# Altium integrated library Relay.IntLib: 28 symbols
Pins are listed as number, name and electrical type; pins without a type are passive.

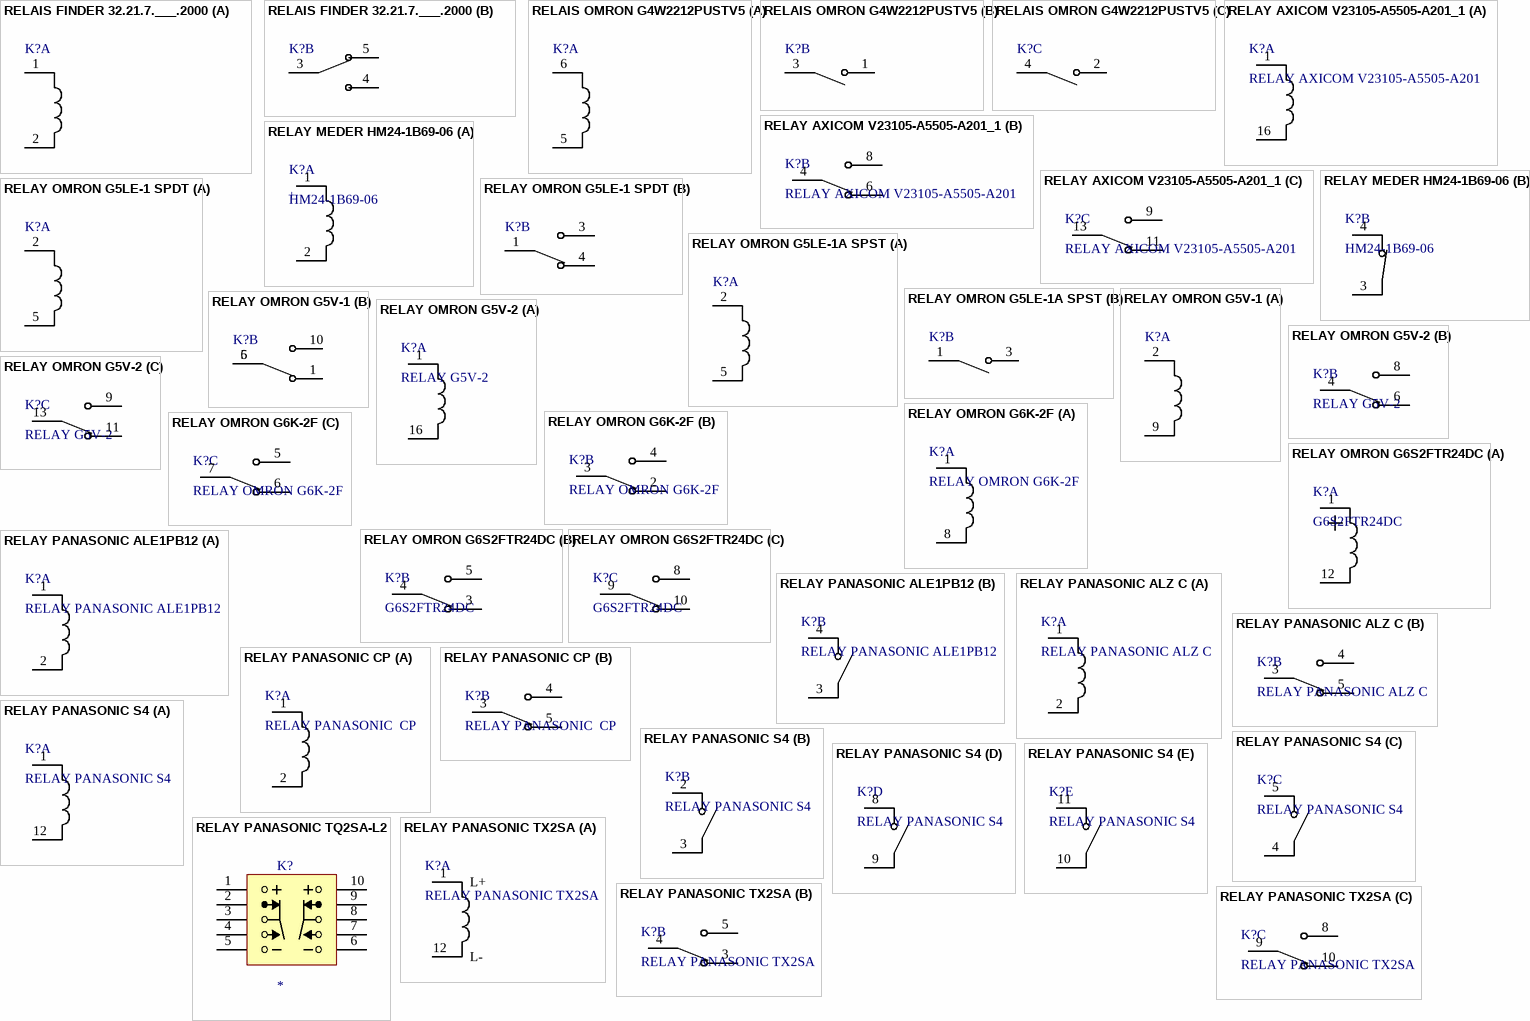
[diagram p0: symbols RELAIS FINDER 32.21.7.___.2000 to RELAY PANASONIC TX2SA]

## RELAIS FINDER 32.21.7.___.2000
designator K?, comment 32.21.7.___.2000  (value not drawn)
RELAIS FINDER 32.21.7.___.2000; Value: 32.21.7.___.2000
footprint RELAIS FINDER 32.21.7.___.2000
part A pins: 1 A1, 2 A2
part B pins: 3 COM, 4 NC, 5 NO

## RELAIS OMRON G4W2212PUSTV5
designator K?, comment G4W2212PUSTV5  (value not drawn)
RELAY DPST-NO; Value: G4W2212PUSTV5
footprint RELAIS OMRON G4W2212PUSTV5
part A pins: 5 L2, 6 L1
part B pins: 1, 3
part C pins: 2, 4

## RELAY AXICOM V23105-A5505-A201_1
designator K?, comment RELAY AXICOM V23105-A5505-A201
RELAY DPDT; Value: RELAY AXICOM V23105-A5505-A201
footprint RELAY AXICOM V23105-A5505-A201 (RELAY AXICOM V23105-A5505-A201 C20x10 H11)
part A pins: 1 L1, 16 L2
part B pins: 4 COM, 6 NC, 8 NO
part C pins: 9 NO, 11 NC, 13 COM

## RELAY MEDER HM24-1B69-06
designator K?, comment HM24-1B69-06
RELAY SPST NC; Manufacturer: MEDER electronic (Standex); Value: HM24-1B69-06; Mouser No.: 876-HM24-1B69-06
footprint RELAY MEDER HM24-1B69-06 (RELAY MEDER HM24-1B69-06 C68.0x19.0 H19.8)
part A pins: 1 L1, 2 L2
part B pins: 3 COM, 4 NO
part A text: +

## RELAY OMRON G5LE-1 SPDT
designator K?, comment RELAY OMRON G5LE-1A SPST  (value not drawn)
Dealer: Mouser; Order Number: 653-G5LE-1A-DC24; Value: RELAY OMRON G5LE-1A SPST
footprint RELAIS OMRON G5LE-1 SPDT (OMRON Cubic, Single-pole 10A Power Relais)
part A pins: 2 L1, 5 L2
part B pins: 1 COM, 3 NO, 4 NC

## RELAY OMRON G5LE-1A SPST
designator K?  (value not drawn)
Dealer: Mouser; Order Number: 653-G5LE-1A-DC24; Value: RELAY OMRON G5LE-1A SPST
footprint RELAIS OMRON G5LE-1A SPST (OMRON Cubic, Single-pole 10A Power Relais)
part A pins: 2 L1, 5 L2
part B pins: 1 COM, 3 NO

## RELAY OMRON G5V-1
designator K?  (value not drawn)
Value: RELAY OMRON G5V-1
footprint RELAIS OMRON G5V-1
part A pins: 2 L1, 9 L2
part B pins: 1 NC, 5 COM, 6 COM, 10 NO

## RELAY OMRON G5V-2
designator K?, comment RELAY G5V-2
Low Signal Relay; Value: RELAY G5V-2
footprint RELAIS OMRON G5V-2
part A pins: 1 L1, 16 L2
part B pins: 4 COM, 6 NC, 8 NO
part C pins: 9 NO, 11 NC, 13 COM

## RELAY OMRON G6K-2F
designator K?
RELAY DPDT; Value: RELAY OMRON G6K-2F
footprint RELAY OMRON G6K-2F
part A pins: 1 L1, 8 L2
part B pins: 2 NC, 3 COM, 4 NO
part C pins: 5 NO, 6 NC, 7 COM

## RELAY OMRON G6S2FTR24DC
designator K?, comment G6S2FTR24DC
RELAY OMRON DPDT SMD PCB Relays Series G6S; Value: G6S2FTR24DC; Manufacturer: OMRON; Schukat No: G6S2FTR24DC
footprint RELAY OMRON G6S-2F (RELAY OMRON G6S-2F C7.4x14.8 H9.2)
part A pins: 1 L1 POS, 12 L2 NEG
part B pins: 3 NC, 4 COM, 5 NO
part C pins: 8 NO, 9 COM, 10 NC

## RELAY PANASONIC ALE1PB12
designator K?
RELAY SPST NO; Value: RELAY PANASONIC ALE1PB12
footprint RELAY PANASONIC ALE1PB12 (RELAY PANASONIC ALE1PB12 C28.6x12.4 H24.9)
part A pins: 1 L1, 2 L2
part B pins: 3 COM, 4 NO

## RELAY PANASONIC ALZ C
designator K?
RELAY DPDT; Value: RELAY PANASONIC ALZ C
footprint RELAY PANASONIC ALZ C (Relay Panassonic ALZ C C28.8x12.5 H15.7)
part A pins: 1 L1, 2 L2
part B pins: 3 COM, 4 NO, 5 NC

## RELAY PANASONIC CP
designator K?, comment RELAY PANASONIC  CP
HIGH CARRYING CURRENT TYPE MINIATURE LOW PROFILE AUTOMOTIVE RELAY; Value: RELAY PANASONIC  CP
footprint RELAY PANASONIC CP
part A pins: 1 L1, 2 L2
part B pins: 3 COM, 4 NO, 5 NC

## RELAY PANASONIC S4
designator K?
S Relays Socket; Value: RELAY PANASONIC S4
footprint RELAY PANASONIC S4 (Relay Panassonic S4 C28.6x12.0 H11.0)
part A pins: 1 L1, 12 L2
part B pins: 2 NO, 3 COM
part C pins: 4 COM, 5 NO
part D pins: 8 NO, 9 COM
part E pins: 10 COM, 11 NO

## RELAY PANASONIC TQ2SA-L2
designator K?
2 coil Latching SMD Relay; Value: *
footprint RELAY PANASONIC TQ2SA-L2 (SMD, 10-Leads, Body 14x9mm, Pitch 2.54mm)
pins: 1, 2, 3, 4, 5, 6, 7, 8, 9, 10

## RELAY PANASONIC TX2SA
designator K?
2 A CAPACITY RELAY; Value: RELAY PANASONIC TX2SA
footprint RELAY PANASONIC TX2SA (RELAY PANASONIC TX2SA C15x7.4 H8.4)
part A pins: 1 L+, 12 L-
part B pins: 3 NC, 4 COM, 5 NO
part C pins: 8 NO, 9 COM, 10 NC

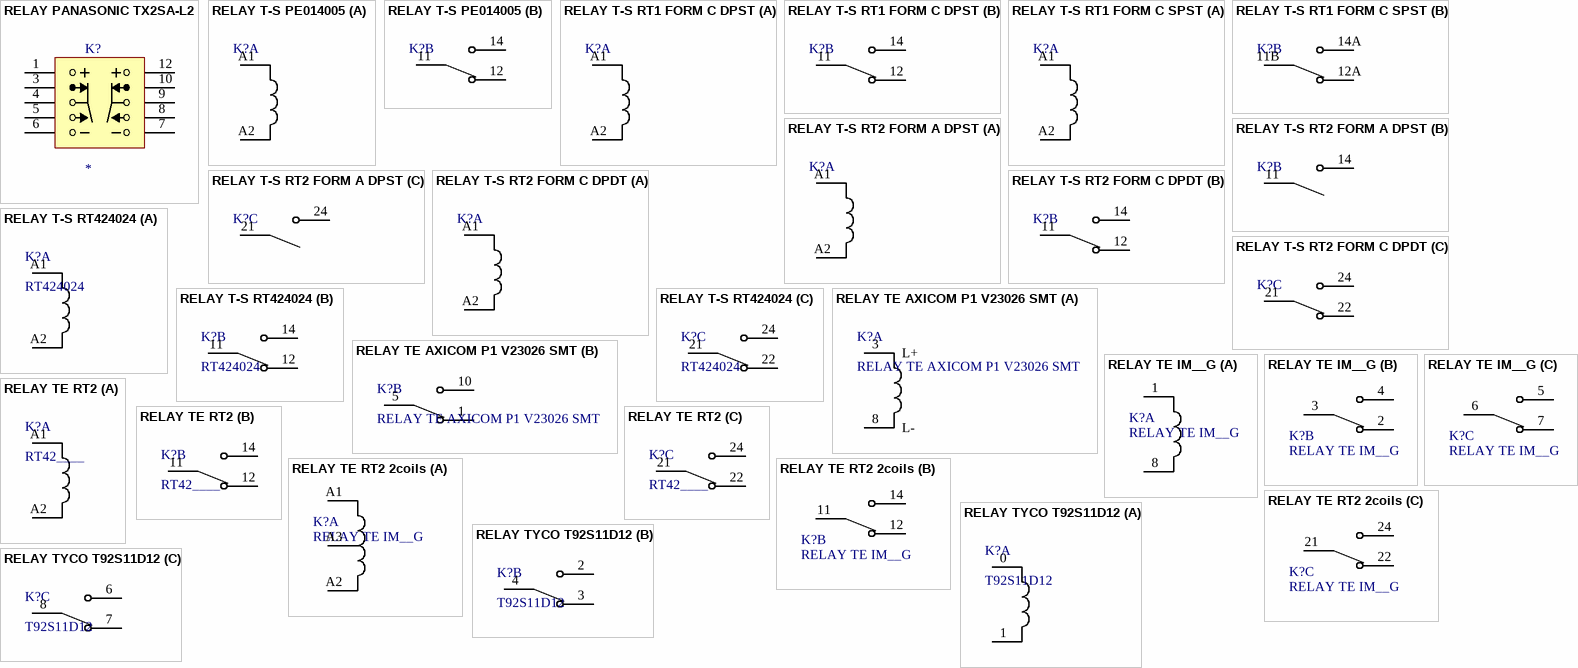
[diagram p1: symbols RELAY PANASONIC TX2SA-L2 to RELAY TYCO T92S11D12]

## RELAY PANASONIC TX2SA-L2
designator K?
2 coil Latching SMD Relay; Value: *
footprint RELAY PANASONIC TX2SA-L2 (RELAY PANASONIC TX2SA-L2 C15x7.4 H8.4)
pins: 1, 3, 4, 5, 6, 7, 8, 9, 10, 12

## RELAY T-S PE014005
designator K?  (value not drawn)
RELAY T-S PE014005; Value: *
footprint RELAY T-S PE014005 L20.0 W10.0 H10.0 (RELAY TE-SCHRACK PE14005 L20.0 W10.0 H10.0)
part A pins: A1 L1, A2 L2
part B pins: 11 COM, 12 NC, 14 NO

## RELAY T-S RT1 FORM C DPST
designator K?
Tyco-Schrack RT1 D
footprint RELAY T-S RT1 FORM C P5.0D L29.0 W12.7 H15.7; pin to pad 11>11A 12>12A 14>14A
part A pins: A1 L1, A2 L2
part B pins: 11 COM, 11B COM, 12 NC, 12B NC, 14 NO, 14B NO

## RELAY T-S RT1 FORM C SPST
designator K?
Tyco-Schrack RT1 FORM C
footprint RELAY T-S RT1 FORM C P3.5 L29.0 W12.7 H15.7
footprint RELAY T-S RT1 FORM C P5.0 L29.0 W12.7 H15.7
part A pins: A1 L1, A2 L2
part B pins: 11B COM, 12A NC, 14A NO

## RELAY T-S RT2 FORM A DPST
designator K?
Tyco-Schrack RT1 D
footprint RELAY T-S RT2 FORM A P5.0D L29.0 W12.7 H15.7
part A pins: A1 L1, A2 L2
part B pins: 11 COM, 14 NO
part C pins: 21 COM, 24 NO

## RELAY T-S RT2 FORM C DPDT
designator K?
Tyco-Schrack RT2 D
footprint RELAY T-S RT2 FORM C P5.0D L29.0 W12.7 H15.7
part A pins: A1 L1, A2 L2
part B pins: 11 COM, 12 NC, 14 NO
part C pins: 21 COM, 22 NC, 24 NO

## RELAY T-S RT424024
designator K?, comment RT424024
Tyco-Schrack RT2 D; Manufacturer: TE Connectivity / Schrack; Article: 6-1393243-8; Mouser No: 655-RT424024; Value: RT424024
footprint RELAY T-S RT2 FORM C P5.0D L29.0 W12.7 H15.7
part A pins: A1 L1, A2 L2
part B pins: 11 COM, 12 NC, 14 NO
part C pins: 21 COM, 22 NC, 24 NO

## RELAY TE AXICOM P1 V23026 SMT
designator K?
Telecom, Signal and RF Relays; Value: RELAY TE AXICOM P1 V23026 SMT
footprint RELAY TE AXICOM P1 V23026 SMT (Telecom, Signal and RF Relays C13.4x7.8 H8.0)
part A pins: 3 L+, 8 L-
part B pins: 1 NC, 5 COM, 10 NO

## RELAY TE IM__G
designator K?
RELAY TELECOM DPDT 2A 3V; Value: RELAY TE IM__G
footprint RELAY TE IM__G (RELAY TE IM__G C10x6.0 H5.65)
part A pins: 1, 8
part B pins: 2 NC, 3 COM, 4 NO
part C pins: 5 NO, 6 COM, 7 NC

## RELAY TE RT2
designator K?, comment RT42____
Power PCB Relay Monostable; Value: RT42____
footprint RELAY TE RT2 FORM C P5.0 L29.0 W12.7 H16.2
part A pins: A1 L1, A2 L2
part B pins: 11 COM, 12 NC, 14 NO
part C pins: 21 COM, 22 NC, 24 NO

## RELAY TE RT2 2coils
designator K?, comment RELAY TE IM__G
RELAY TE RT2 2coils, Bistable; Value: RELAY TE IM__G
footprint RELAY TE RT2 2coils
part A pins: A1, A2, A3
part B pins: 11 COM, 12 NC, 14 NO
part C pins: 21 COM, 22 NC, 24 NO

## RELAY TYCO T92S11D12
designator K?, comment T92S11D12
RELAY DPDT; Value: T92S11D12
footprint RELAY TYCO T92S11D12 (Relay Tyco T92S11D12 C52.3x34.6 H30.7)
part A pins: 0 L1, 1 L2
part B pins: 2 NO, 3 NC, 4 COM
part C pins: 6 NO, 7 NC, 8 COM